# EAGLE library part CC3200 (library cc3200)
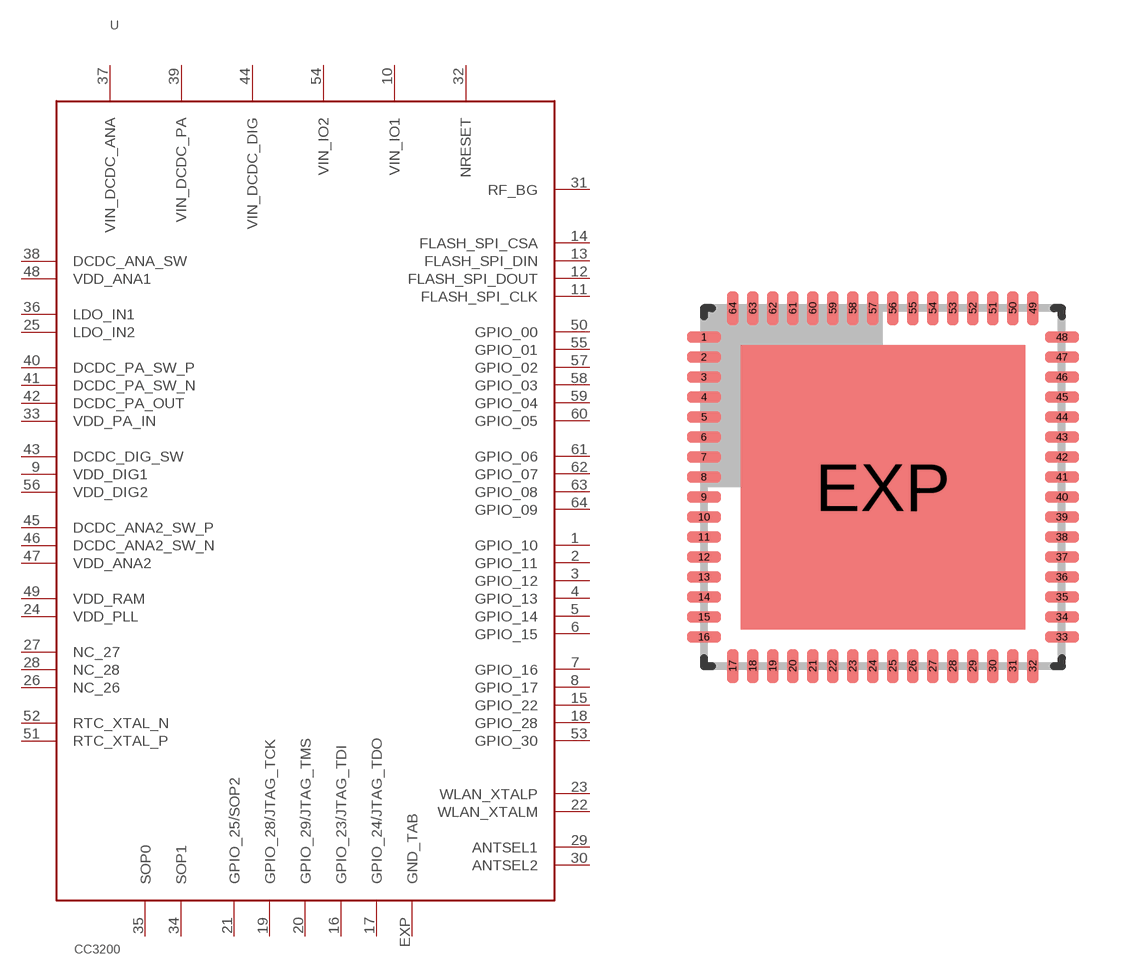
[diagram p0: symbol with the pads of PVQFN-N64; footprint PVQFN-N64]

Designator prefix U

## CC3200  [PVQFN-N64]
1  GPIO_10
2  GPIO_11
3  GPIO_12
4  GPIO_13
5  GPIO_14
6  GPIO_15
7  GPIO_16
8  GPIO_17
9  VDD_DIG1
10  VIN_IO1
11  FLASH_SPI_CLK
12  FLASH_SPI_DOUT
13  FLASH_SPI_DIN
14  FLASH_SPI_CSA
15  GPIO_22
16  GPIO_23/JTAG_TDI
17  GPIO_24/JTAG_TDO
18  GPIO_28
19  GPIO_28/JTAG_TCK
20  GPIO_29/JTAG_TMS
21  GPIO_25/SOP2
22  WLAN_XTALM
23  WLAN_XTALP
24  VDD_PLL
25  LDO_IN2
26  NC_26
27  NC_27
28  NC_28
29  ANTSEL1
30  ANTSEL2
31  RF_BG
32  NRESET
33  VDD_PA_IN
34  SOP1
35  SOP0
36  LDO_IN1
37  VIN_DCDC_ANA
38  DCDC_ANA_SW
39  VIN_DCDC_PA
40  DCDC_PA_SW_P
41  DCDC_PA_SW_N
42  DCDC_PA_OUT
43  DCDC_DIG_SW
44  VIN_DCDC_DIG
45  DCDC_ANA2_SW_P
46  DCDC_ANA2_SW_N
47  VDD_ANA2
48  VDD_ANA1
49  VDD_RAM
50  GPIO_00
51  RTC_XTAL_P
52  RTC_XTAL_N
53  GPIO_30
54  VIN_IO2
55  GPIO_01
56  VDD_DIG2
57  GPIO_02
58  GPIO_03
59  GPIO_04
60  GPIO_05
61  GPIO_06
62  GPIO_07
63  GPIO_08
64  GPIO_09
EXP  GND_TAB

## Footprint PVQFN-N64 (pad centres in mm)
smd 0.85 x 0.28: 1 -4.475,3.75; 2 -4.475,3.25; 3 -4.475,2.75; 4 -4.475,2.25; 5 -4.475,1.75; 6 -4.475,1.25; 7 -4.475,0.75; 8 -4.475,0.25; 9 -4.475,-0.25; 10 -4.475,-0.75; 11 -4.475,-1.25; 12 -4.475,-1.75; 13 -4.475,-2.25; 14 -4.475,-2.75; 15 -4.475,-3.25; 16 -4.475,-3.75; 33 4.475,-3.75; 34 4.475,-3.25; 35 4.475,-2.75; 36 4.475,-2.25; 37 4.475,-1.75; 38 4.475,-1.25; 39 4.475,-0.75; 40 4.475,-0.25; 41 4.475,0.25; 42 4.475,0.75; 43 4.475,1.25; 44 4.475,1.75; 45 4.475,2.25; 46 4.475,2.75; 47 4.475,3.25; 48 4.475,3.75
smd 0.28 x 0.85: 17 -3.75,-4.475; 18 -3.25,-4.475; 19 -2.75,-4.475; 20 -2.25,-4.475; 21 -1.75,-4.475; 22 -1.25,-4.475; 23 -0.75,-4.475; 24 -0.25,-4.475; 25 0.25,-4.475; 26 0.75,-4.475; 27 1.25,-4.475; 28 1.75,-4.475; 29 2.25,-4.475; 30 2.75,-4.475; 31 3.25,-4.475; 32 3.75,-4.475; 49 3.75,4.475; 50 3.25,4.475; 51 2.75,4.475; 52 2.25,4.475; 53 1.75,4.475; 54 1.25,4.475; 55 0.75,4.475; 56 0.25,4.475; 57 -0.25,4.475; 58 -0.75,4.475; 59 -1.25,4.475; 60 -1.75,4.475; 61 -2.25,4.475; 62 -2.75,4.475; 63 -3.25,4.475; 64 -3.75,4.475
smd 7.112 x 7.112: EXP 0,0